# EAGLE library part TCPP01-M12 (library TCPP01-M12)
USB Type-C and power delivery protection for sink application Source: Datasheet <https://www.st.com/resource/en/datasheet/tcpp01-m12.pdf>
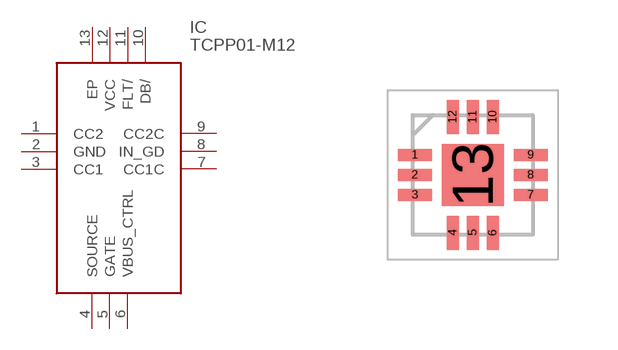
[diagram p0: symbol with the pads of QFN50P300X300X100-13N; footprint QFN50P300X300X100-13N]

Designator prefix IC

## TCPP01-M12 (Arrow_Part_Number: TCPP01-M12; Arrow_Price-Stock: https://www.arrow.com/en/products/tcpp01-m12/stmicroelectronics.html?utm_currency=USD&region=europe; Description: USB Type-C and power delivery protection for sink application; Height: 1mm; Manufacturer_Name: STMicroelectronics; Manufacturer_Part_Number: TCPP01-M12; Mouser_Part_Number: 511-TCPP01-M12; Mouser_Price-Stock: https://www.mouser.co.uk/ProductDetail/STMicroelectronics/TCPP01-M12?qs=%252B6g0mu59x7KCafIwapwG2A%3D%3D)  [QFN50P300X300X100-13N]
1  CC2
2  GND
3  CC1
4  SOURCE
5  GATE
6  VBUS_CTRL
7  CC1C
8  IN_GD
9  CC2C
10  DB/
11  FLT/
12  VCC
13  EP

## Footprint QFN50P300X300X100-13N (pad centres in mm)
QFN12
smd 0.85 x 0.3: 1 -1.45,0.5; 2 -1.45,0; 3 -1.45,-0.5; 7 1.45,-0.5; 8 1.45,0; 9 1.45,0.5
smd 0.3 x 0.85: 4 -0.5,-1.45; 5 0,-1.45; 6 0.5,-1.45; 10 0.5,1.45; 11 0,1.45; 12 -0.5,1.45
smd 1.55 x 1.55: 13 0,0